# Altium schematic symbol library Библиотека символов.SchLib: 3 symbols
Pins are listed as number, name and electrical type; pins without a type are passive.

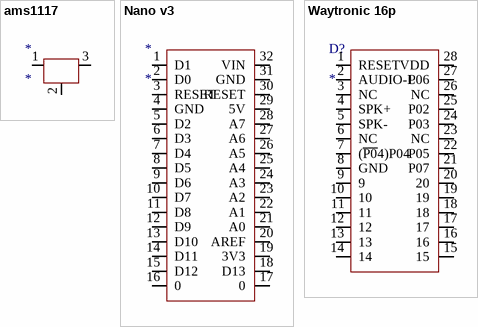
[diagram p0: symbols ams1117 to Waytronic 16p]

## ams1117
designator *
footprint ams1117 (SOT223, 4-Leads, Body 6,50x7,00mm (avg), Pitch 2,30mm, IPC Medium Density)
pins: 1 Vin, 2 GND, 3 Vout

## Nano v3
designator *
footprint Nano v3
pins: 1 D1, 2 D0, 3 RESET, 4 GND, 5 D2, 6 D3, 7 D4, 8 D5, 9 D6, 10 D7, 11 D8, 12 D9, 13 D10, 14 D11, 15 D12, 16 0, 17 0, 18 D13, 19 3V3, 20 AREF, 21 A0, 22 A1, 23 A2, 24 A3, 25 A4, 26 A5, 27 A6, 28 A7, 29 5V, 30 RESET, 31 GND, 32 VIN

## Waytronic 16p
designator D?
footprint Waytronic_16p (D?)
pins: 1 RESET, 2 AUDIO-L, 3 NC, 4 SPK+, 5 SPK-, 6 NC, 7 (~{P0}4)P04, 8 GND, 9, 10, 11, 12, 13, 14, 15, 16, 17, 18, 19, 20, 21 P07, 22 P05, 23 NC, 24 P03, 25 P02, 26 NC, 27 P06, 28 VDD